# Altium schematic symbol library ESP32-U4WDH.Schlib: 1 symbol
Pins are listed as number, name and electrical type; pins without a type are passive.

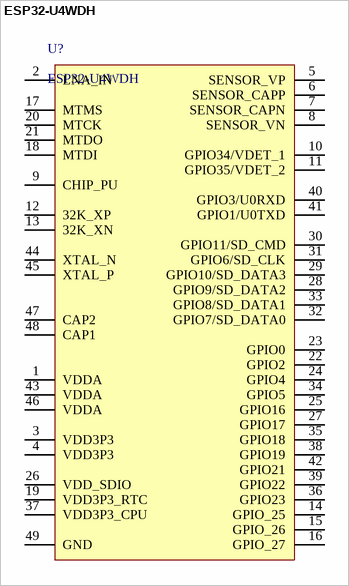
[diagram p0: symbol ESP32-U4WDH]

## ESP32-U4WDH
designator U?
IC RF TxRx + MCU Bluetooth, WiFi  2.4GHz 48-QFN
pins: 1 VDDA, 2 LNA_IN, 3 VDD3P3, 4 VDD3P3, 5 SENSOR_VP, 6 SENSOR_CAPP, 7 SENSOR_CAPN, 8 SENSOR_VN, 9 CHIP_PU, 10 GPIO34/VDET_1, 11 GPIO35/VDET_2, 12 32K_XP, 13 32K_XN, 14 GPIO_25, 15 GPIO_26, 16 GPIO_27, 17 MTMS, 18 MTDI, 19 VDD3P3_RTC, 20 MTCK, 21 MTDO, 22 GPIO2, 23 GPIO0, 24 GPIO4, 25 GPIO16, 26 VDD_SDIO, 27 GPIO17, 28 GPIO9/SD_DATA2, 29 GPIO10/SD_DATA3, 30 GPIO11/SD_CMD, 31 GPIO6/SD_CLK, 32 GPIO7/SD_DATA0, 33 GPIO8/SD_DATA1, 34 GPIO5, 35 GPIO18, 36 GPIO23, 37 VDD3P3_CPU, 38 GPIO19, 39 GPIO22, 40 GPIO3/U0RXD, 41 GPIO1/U0TXD, 42 GPIO21, 43 VDDA, 44 XTAL_N, 45 XTAL_P, 46 VDDA, 47 CAP2, 48 CAP1, 49 GND